# EAGLE library part HSCDRRT001PD2A3 (library HSCDRRT001PD2A3)
Honeywell Differential Pressure Sensor Pressure Sensor ±1PSI (±6.89kPa) Differential Male - 0.08" (1.93mm) Tube, Dual 12 b 8-DIP (0.524", 13.30mm), Dual Ports, Same Side, I2C https://www.digikey.com/product-detail/en/honeywell-sensing-and-productivity-solutions/HSCDRRT001PD2A3/480-3335-ND/2601662
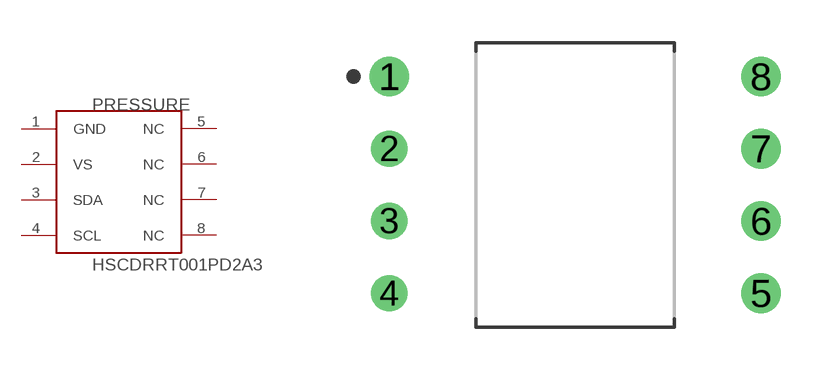
[diagram p0: symbol with the pads of DIP1330W46P254L1000H616Q8B; footprint DIP1330W46P254L1000H616Q8B]

Designator prefix PRESSURE

## HSCDRRT001PD2A3  [DIP1330W46P254L1000H616Q8B]
1  GND
2  VS
3  SDA
4  SCL
5  NC
6  NC
7  NC
8  NC

## Footprint DIP1330W46P254L1000H616Q8B (pad centres in mm)
8-DIP, 2.54 mm (0.10 in) pitch, 13.30 mm (0.52 in) span, 10.00 X 6.99 X 6.16 mm body 8-pin DIP package with 2.54 mm (0.10 in) pitch, 13.30 mm (0.52 in) span with body size 10.00 X 6.99 X 6.16 mm
drill 0.813 pad 1.397: 1 -6.54,3.81; 5 6.54,-3.81; 6 6.54,-1.27; 7 6.54,1.27; 8 6.54,3.81
drill 0.675 pad 1.275: 2 -6.54,1.27; 3 -6.54,-1.27; 4 -6.54,-3.81